# EAGLE library part IP4856CX25 (library Joule Expansion Board)
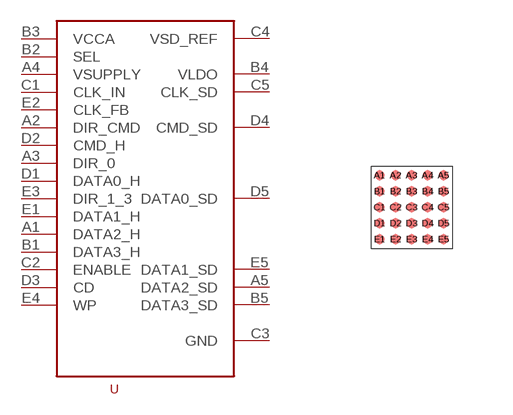
[diagram p11: symbol with the pads of 25-WLCSP; footprint 25-WLCSP]

Designator prefix -

## IP4856CX25  [25-WLCSP]
A1  DATA2_H
A2  DIR_CMD
A3  DIR_0
A4  VSUPPLY
A5  DATA2_SD
B1  DATA3_H
B2  SEL
B3  VCCA
B4  VLDO
B5  DATA3_SD
C1  CLK_IN
C2  ENABLE
C3  GND
C4  VSD_REF
C5  CLK_SD
D1  DATA0_H
D2  CMD_H
D3  CD
D4  CMD_SD
D5  DATA0_SD
E1  DATA1_H
E2  CLK_FB
E3  DIR_1_3
E4  WP
E5  DATA1_SD

## Footprint 25-WLCSP (pad centres in mm)
smd 0.25 x 0.25: A1 -0.8,0.8; A2 -0.4,0.8; A3 0,0.8; A4 0.4,0.8; A5 0.8,0.8; B1 -0.8,0.4; B2 -0.4,0.4; B3 0,0.4; B4 0.4,0.4; B5 0.8,0.4; C1 -0.8,0; C2 -0.4,0; C3 0,0; C4 0.4,0; C5 0.8,0; D1 -0.8,-0.4; D2 -0.4,-0.4; D3 0,-0.4; D4 0.4,-0.4; D5 0.8,-0.4; E1 -0.8,-0.8; E2 -0.4,-0.8; E3 0,-0.8; E4 0.4,-0.8; E5 0.8,-0.8